# Altium schematic symbol library AB_SF.SchLib: 64 symbols
Pins are listed as number, name and electrical type; pins without a type are passive.

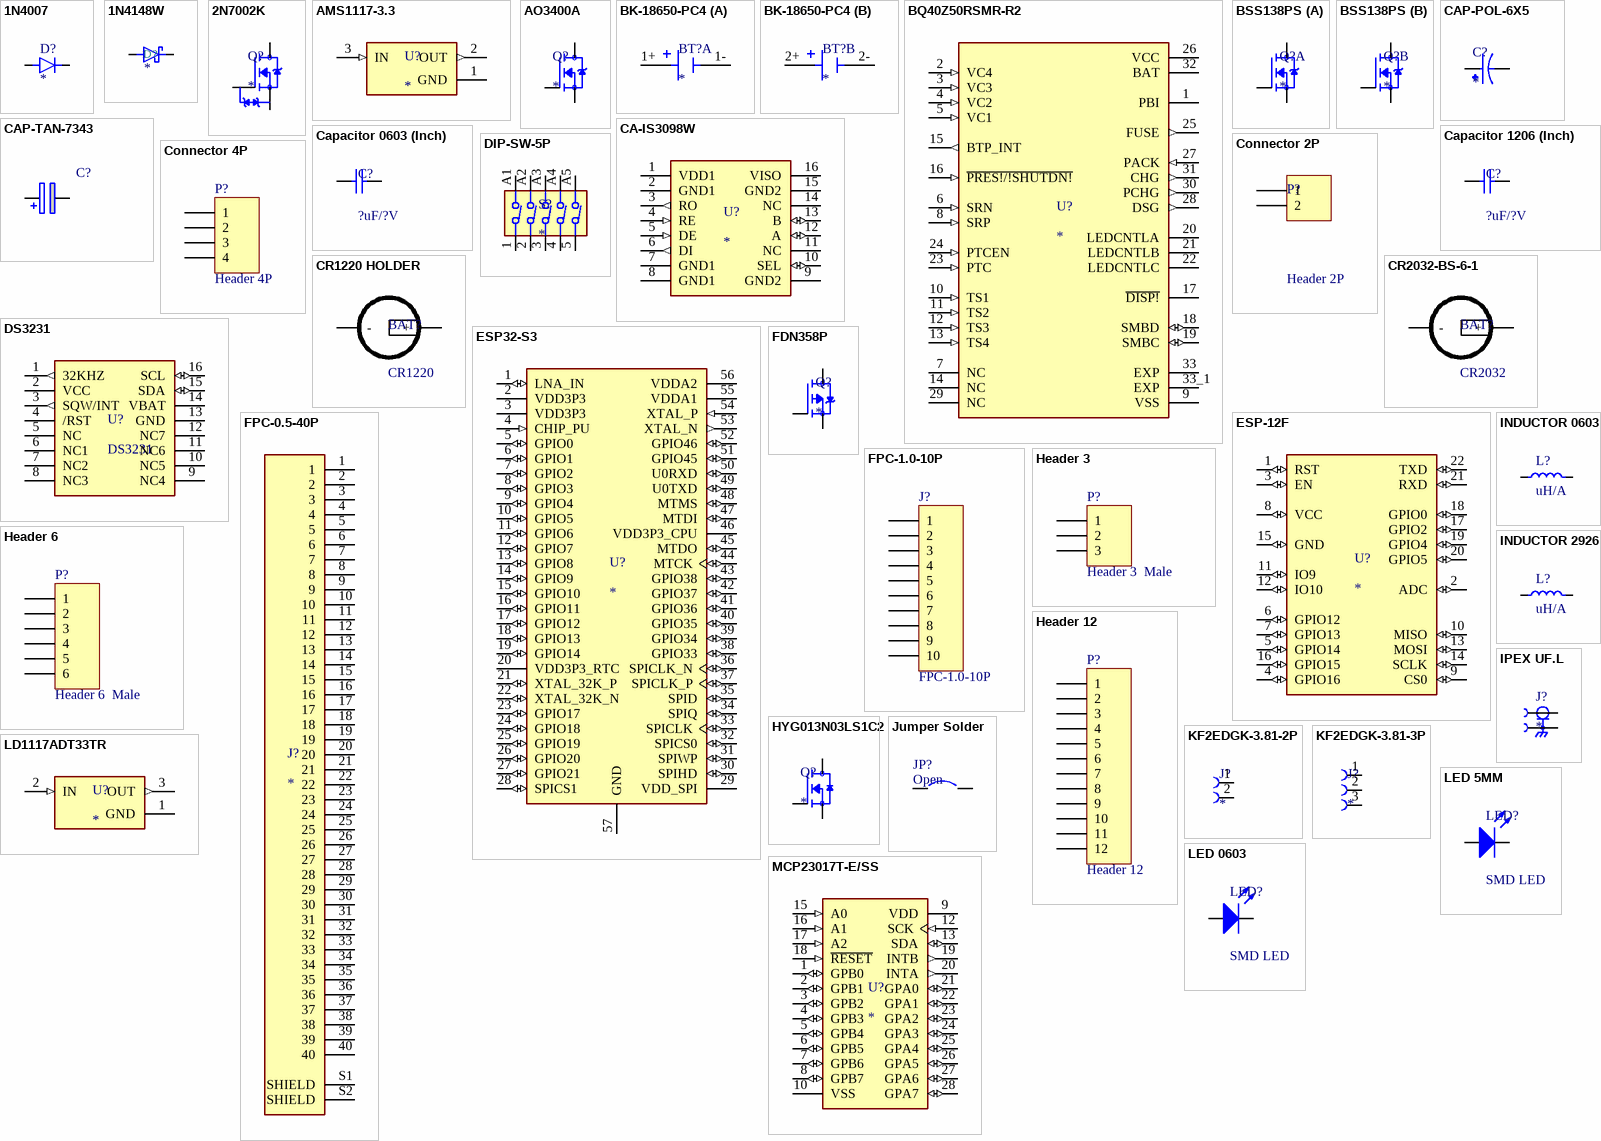
[diagram p0: symbols 1N4007 to MCP23017T-E/SS]

## 1N4007
designator D?
Diode Standard 1000V 1A Surface Mount SMA; MP: US1M-13; MF: Diodes Incorporated; Availability: In Stock; Package: DO-214AC-214 Diodes Incorporated; SnapEDA_Link: https://www.snapeda.com/parts/US1M-13/Diodes+Inc./view-part/?ref=snap; Check_prices: https://www.snapeda.com/parts/US1M-13/Diodes+Inc./view-part/?ref=eda; Value: *; Price: None; LCSC Part #: C7528875
footprint DO-214AC
pins: A, C K

## 1N4148W
designator D?
MFR.Part #: 1N4148W; LCSC Part #: C81598; ComponentLink1Description: Datasheet; ComponentLink1URL: https://www.lcsc.com/datasheet/C81598.pdf
footprint SOD-123F (SMD)
pins: A, K

## 2N7002K
designator Q?
60V 380mA 540mW 1.6V@1mA 1 N-Channel SOT-23; MFR.Part #: 2N7002K-7; LCSC Part #: C85047; ComponentLink1Description: Datasheet; ComponentLink1URL: https://www.lcsc.com/datasheet/C85047.pdf
footprint SOT-23-3
pins: 1 G, 2 S, 3 D

## AMS1117-3.3
designator U?
72dB@(120Hz) 1A Fixed 3.3V Positive 16V SOT-223 Voltage Regulators - Linear, Low Drop Out (LDO) Regulators; MFR.Part #: AMS1117-3.3; LCSC Part #: C6186; ComponentLink1Description: Datasheet; ComponentLink1URL: https://lcsc.com/datasheet/lcsc_datasheet_2410121508_Advanced-Monolithic-Systems-AMS1117-3-3_C6186.pdf
footprint SOT-223
pins: 1 GND (power), 2 OUT (out), 3 IN (in)

## AO3400A
designator Q?
N-Channel 30 V 5.8A 1.4W; MFR.Part #: AO3400A; LCSC Part #: C20917; ComponentLink1Description: Datasheet; ComponentLink1URL: https://www.lcsc.com/datasheet/lcsc_datasheet_2410121838_Alpha---Omega-Semicon-AO3400A_C20917.pdf
footprint SOT-23-3
pins: 1 G, 2 S, 3 D

## BK-18650-PC4
designator BT?
Battery Holder (Open) 18650 2 Cell PC Pin; MP: BK-18650-PC4; Price: None; Value: *; Package: None; Availability: Unavailable
footprint BAT_BK-18650-PC4
part A pins: 1+, 1-
part B pins: 2+, 2-

## BQ40Z50RSMR-R2
designator U?
1-4 series Li-ion battery pack manager supporting Turbo Mode 2.0 32-VQFN -40 to 85; MFR.Part #: BQ40Z50RSMR-R2; LCSC Part #: C2845123; ComponentLink1Description: Datasheet; ComponentLink1URL: https://www.lcsc.com/datasheet/C2845123.pdf
footprint VQFN-32
pins: 1 PBI (power), 2 VC4 (in), 3 VC3 (in), 4 VC2 (in), 5 VC1 (in), 6 SRN (in), 7 NC, 8 SRP (in), 9 VSS (power), 10 TS1 (in), 11 TS2 (in), 12 TS3 (in), 13 TS4 (in), 14 NC, 15 BTP_INT (out), 16 ~{PRES!/!SHUTDN!} (in), 17 ~{DISP!}, 18 SMBD (io), 19 SMBC (io), 20 LEDCNTLA, 21 LEDCNTLB, 22 LEDCNTLC, 23 PTC (in), 24 PTCEN (in), 25 FUSE (out), 26 VCC (power), 27 PACK (in), 28 DSG (out), 29 NC, 30 PCHG (out), 31 CHG (out), 32 BAT (power), 33 EXP, 33_1 EXP

## BSS138PS
designator Q?
60 V, 320 mA dual N-channel Trench MOSFET; MFR.Part #: BSS138PS,115; LCSC Part #: C193381; ComponentLink1Description: Datasheet; ComponentLink1URL: https://www.lcsc.com/datasheet/lcsc_datasheet_2410121736_Nexperia-BSS138PS-115_C193381.pdf
footprint SOT-363
part A pins: 1 S1, 2 G1, 6 D1
part B pins: 3 D2, 4 S2, 5 G2

## CA-IS3098W
designator U?
SOIC16-WB(W) Isolated RS-485/422 Transceivers with power, 20Mbps; MFR.Part #: CA-IS3098W; LCSC Part #: C7422557; ComponentLink1Description: Datasheet; ComponentLink1URL: https://www.lcsc.com/datasheet/C7422557.pdf
footprint SOIC-16-WIDE
pins: 1 VDD1 (power), 2 GND1 (power), 3 RO (out), 4 RE (in), 5 DE (in), 6 DI (out), 7 GND1 (power), 8 GND1 (power), 9 GND2 (power), 10 SEL (io), 11 NC, 12 A (io), 13 B (io), 14 NC, 15 GND2 (power), 16 VISO (power)

## CAP-POL-6X5
designator C?
CAP 6X5; MFR.Part #: *; LCSC Part #: *; ComponentLink1Description: Datasheet; ComponentLink1URL: *
footprint CAP_POL_6X5
pins: 1, 2

## CAP-TAN-7343
designator C?, comment ?uF/?V
7343mm Chip Tantalum Capacitor; MFR.Part #: *; LCSC Part #: *; ComponentLink1Description: Datasheet; ComponentLink1URL: *
footprint CAP_TAN_7343_D
pins: A +, C -

## Capacitor 0603 (Inch)
designator C?, comment ?uF/?V
0603 SMD Non-Polarity Capacitor; MFR.Part #: *; LCSC Part #: *; ComponentLink1Description: Datasheet; ComponentLink1URL: *
footprint C0603
pins: 1, 2

## Capacitor 1206 (Inch)
designator C?, comment ?uF/?V
1206 SMD Non-Polarity Capacitor; MFR.Part #: *; LCSC Part #: *; ComponentLink1Description: Datasheet; ComponentLink1URL: *
footprint C1206 (SOD-323; 2 Leads; Body 2.7 x 1.6 mm, (LxW))
pins: 1, 2

## Connector 2P
designator P?, comment Header 2P
CONNECTOR HEADER; MFR.Part #: *; LCSC Part #: *; ComponentLink1Description: Datasheet; ComponentLink1URL: *
footprint JST_XH-2.54 - 2P
footprint XH-2.54-2P (PinHeader 1x2 TH Pitch 2.54mm)
pins: 1, 2

## Connector 4P
designator P?, comment Header 4P
CONNECTOR HEADER; LatestRevisionDate: 17-Jul-2002; LatestRevisionNote: Re-released for DXP Platform.; Publisher: Altium Limited
footprint JST_S4B-XH-A(LF)(SN)
footprint JST_XH-2.54
pins: 1, 2, 3, 4

## CR1220 HOLDER
designator BAT?, comment CR1220
BATTERY HOLDER; MFR.Part #: BC501SM; LCSC Part #: C5439670; ComponentLink1Description: Datasheet; ComponentLink1URL: https://www.lcsc.com/datasheet/lcsc_datasheet_2410121528_MPD--Memory-Protection-Devices-BC501SM_C5439670.pdf
footprint MPD_BC501SM-TR
pins: +, -
1 alternate drawing of the same symbol

## CR2032-BS-6-1
designator BAT?, comment CR2032
Battery base CR2032 SMD Battery Connectors; MFR.Part #: *; LCSC Part #: *; ComponentLink1Description: Datasheet; ComponentLink1URL: *
footprint CR2032-BS-6-1
pins: N -, P +
1 alternate drawing of the same symbol

## DIP-SW-5P
designator S?
Dip Switch SPST 5 Position Through Hole Slide (Standard) Actuator 25mA 24VDC; MF: WÃ¼rth Elektronik; MP: 418117270905; SnapEDA_Link: https://www.snapeda.com/parts/418117270905/W%25C3%25BCrth+Elektronik+Midcom/view-part/?ref=snap; Package: None; Value: *; Check_prices: https://www.snapeda.com/parts/418117270905/W%25C3%25BCrth+Elektronik+Midcom/view-part/?ref=eda
footprint DIP-SW-5P
pins: 1, 2, 3, 4, 5, A1, A2, A3, A4, A5

## DS3231
designator U?
Real Time Clock (RTC) IC Clock/Calendar - IÂ²C, 2-Wire Serial 8-SOIC (0.154, 3.90mm Width); MFR.Part #: DS3231SN#T&R; LCSC Part #: C9866; ComponentLink1Description: Datasheet; ComponentLink1URL: https://www.lcsc.com/datasheet/C9866.pdf
footprint SOIC-16-WIDE
pins: 1 32KHZ (out), 2 VCC (power), 3 SQW/INT (out), 4 /RST, 5 NC, 6 NC1, 7 NC2, 8 NC3, 9 NC4, 10 NC5, 11 NC6, 12 NC7, 13 GND (power), 14 VBAT (power), 15 SDA (io), 16 SCL (io)

## ESP32-S3
designator U?
IC RF TxRx + MCU Bluetooth, WiFi 802.11b/g/n, Bluetooth v5.0 2.412GHz ~ 2.484GHz 56-VFQFN Exposed Pad; MFR.Part #: *; LCSC Part #: *; ComponentLink1Description: Datasheet; ComponentLink1URL: *
footprint ESP32-S3
pins: 1 LNA_IN (io), 2 VDD3P3 (power), 3 VDD3P3 (power), 4 CHIP_PU (in), 5 GPIO0 (io), 6 GPIO1 (io), 7 GPIO2 (io), 8 GPIO3 (io), 9 GPIO4 (io), 10 GPIO5 (io), 11 GPIO6 (io), 12 GPIO7 (io), 13 GPIO8 (io), 14 GPIO9 (io), 15 GPIO10 (io), 16 GPIO11 (io), 17 GPIO12 (io), 18 GPIO13 (io), 19 GPIO14 (io), 20 VDD3P3_RTC (power), 21 XTAL_32K_P (io), 22 XTAL_32K_N (io), 23 GPIO17 (io), 24 GPIO18 (io), 25 GPIO19 (io), 26 GPIO20 (io), 27 GPIO21 (io), 28 SPICS1 (io), 29 VDD_SPI (power), 30 SPIHD (io), 31 SPIWP (io), 32 SPICS0 (io), 33 SPICLK (io), 34 SPIQ (io), 35 SPID (io), 36 SPICLK_N (io), 37 SPICLK_P (io), 38 GPIO33 (io), 39 GPIO34 (io), 40 GPIO35 (io), 41 GPIO36 (io), 42 GPIO37 (io), 43 GPIO38 (io), 44 MTCK (io), 45 MTDO (io), 46 VDD3P3_CPU (power), 47 MTDI (io), 48 MTMS (io), 49 U0TXD (io), 50 U0RXD (io), 51 GPIO45 (io), 52 GPIO46 (io), 53 XTAL_N (out), 54 XTAL_P (in), 55 VDDA1 (power), 56 VDDA2 (power), 57 GND (power)

## ESP-12F
designator U?
WiFi Module; MF: AI-Thinker; MP: ESP-12F; SnapEDA_Link: https://www.snapeda.com/parts/ESP-12F/AI-Thinker/view-part/?ref=snap; Package: Package; Value: *; Check_prices: https://www.snapeda.com/parts/ESP-12F/AI-Thinker/view-part/?ref=eda
footprint ESP-12F
pins: 1 RST (io), 2 ADC (io), 3 EN (io), 4 GPIO16 (io), 5 GPIO14 (io), 6 GPIO12 (io), 7 GPIO13 (io), 8 VCC (io), 9 CS0 (io), 10 MISO (io), 11 IO9 (io), 12 IO10 (io), 13 MOSI (io), 14 SCLK (io), 15 GND (io), 16 GPIO15 (io), 17 GPIO2 (io), 18 GPIO0 (io), 19 GPIO4 (io), 20 GPIO5 (io), 21 RXD (io), 22 TXD (io)

## FDN358P
designator Q?
P-Channel 30V 1.5A (Ta) 500mW (Ta) Surface Mount SuperSOT-3; MFR.Part #: FDN358P; LCSC Part #: C5197337; ComponentLink1Description: Datasheet; ComponentLink1URL: https://www.lcsc.com/datasheet/C5197337.pdf
footprint SOT-23-3
pins: 1 G, 2 S, 3 D

## FPC-0.5-40P
designator J?
Connector: FFC / FPC; horizontal; PIN: 40; ZIF, top contacts; SMT; MFR.Part #: *; LCSC Part #: *; ComponentLink1Description: Datasheet; ComponentLink1URL: *
footprint FPC_0.5_40P - TOP CONTACT - duplicate
pins: 1, 2, 3, 4, 5, 6, 7, 8, 9, 10, 11, 12, 13, 14, 15, 16, 17, 18, 19, 20, 21, 22, 23, 24, 25, 26, 27, 28, 29, 30, 31, 32, 33, 34, 35, 36, 37, 38, 39, 40, S1 SHIELD, S2 SHIELD

## FPC-1.0-10P
designator J?
Connector: FFC / FPC; horizontal; PIN: 10; ZIF; LatestRevisionDate: 17-Jul-2002; LatestRevisionNote: Re-released for DXP Platform.; Publisher: Altium Limited
footprint FPC_1.0_10P - BOTTOM CONTACT
pins: 1, 2, 3, 4, 5, 6, 7, 8, 9, 10

## Header 3
designator P?, comment Header 3  Male
Header, 3-Pin; LatestRevisionDate: 17-Jul-2002; LatestRevisionNote: Re-released for DXP Platform.; Publisher: Altium Limited
footprint HDR-3P-2.54mm (PinHeader 1x3 TH Pitch 2.54mm)
pins: 1, 2, 3

## Header 6
designator P?, comment Header 6  Male
Header, 6-Pin; LatestRevisionDate: 17-Jul-2002; LatestRevisionNote: Re-released for DXP Platform.; Publisher: Altium Limited
footprint HDR-6P-2.54mm (PinHeader 1x6 TH Pitch 2.54mm)
pins: 1, 2, 3, 4, 5, 6

## Header 12
designator P?
Header, 12-Pin; LatestRevisionDate: 17-Jul-2002; LatestRevisionNote: Re-released for DXP Platform.; Publisher: Altium Limited
footprint HDR-12P-2.54mm (PinHeader 1x12 TH Pitch 2.54mm)
pins: 1, 2, 3, 4, 5, 6, 7, 8, 9, 10, 11, 12

## HYG013N03LS1C2
designator Q?
MOSFET N-CH 30V 150A PDFN5x6-8; MFR.Part #: HYG013N03LS1C2; LCSC Part #: C2763405; ComponentLink1Description: Datasheet; ComponentLink1URL: https://www.lcsc.com/datasheet/C2763405.pdf
footprint PDFN56
pins: 1 S, 2 S, 3 S, 4 G, 5_8 D

## INDUCTOR 0603
designator L?, comment uH/A
Inductor with Package: 0603 Inch; MFR.Part #: *; LCSC Part #: *; ComponentLink1Description: Datasheet; ComponentLink1URL: *
footprint L0603
pins: 1, 2

## INDUCTOR 2926
designator L?, comment uH/A
Inductor with Package: 2926 (7467); MFR.Part #: *; LCSC Part #: *; ComponentLink1Description: Datasheet; ComponentLink1URL: *
footprint IND_2926 (7467)
pins: 1, 2

## IPEX UF.L
designator J?
1 POS Vertical SMD Small form factor with big performance through 6 GHz connector,MHF, RF, micro-coaxial MHF I Receptacle; MFR.Part #: *; LCSC Part #: *; ComponentLink1Description: Datasheet; ComponentLink1URL: *
footprint IPEX_UF.L
pins: 1 SIGNAL, 2 GROUND, 3 GROUND

## Jumper Solder
designator JP?, comment Open
Jumper Solder Pad; Published: 24-Mar-1999; Revision: July-2002: Re-released for DXP Platform.; Publisher: Altium Limited
footprint SB_STM (solder bridge)
pins: 1, 2

## KF2EDGK-3.81-2P
designator J?
TB PLUG 2P 5M; MP: 691312710002; MF: Wurth Elektronik; Purchase-URL: https://pricing.snapeda.com/search/part/691312710002/?ref=eda; Price: None; Value: *; SnapEDA_Link: https://www.snapeda.com/parts/691312710002/Wurth+Elektronik/view-part/?ref=snap; Package: None; Availability: In Stock; Check_prices: https://www.snapeda.com/parts/691312710002/Wurth+Elektronik/view-part/?ref=eda
footprint KF2EDGK-3.81-2P
pins: 1, 2 1

## KF2EDGK-3.81-3P
designator J?
TB PLUG 2P 5M; MP: 691312710002; MF: Wurth Elektronik; Purchase-URL: https://pricing.snapeda.com/search/part/691312710002/?ref=eda; Price: None; Value: *; SnapEDA_Link: https://www.snapeda.com/parts/691312710002/Wurth+Elektronik/view-part/?ref=snap; Package: None; Availability: In Stock; Check_prices: https://www.snapeda.com/parts/691312710002/Wurth+Elektronik/view-part/?ref=eda
footprint KF2EDGK-3.81-3P
pins: 1, 2 1, 3

## LD1117ADT33TR
designator U?
Linear Voltage Regulator IC Positive Fixed 1 Output 3.3V 1A; MP: AMS1117-5.0; Value: *; Availability: Unavailable; Price: None; Package: None; LCSC Part #: C6186
footprint DPAK
pins: 1 GND (power), 2 IN (in), 3 OUT (out)

## LED 5MM
designator LED?, comment SMD LED
LED D5MM; Published: 8-Jun-2000; LatestRevisionDate: 08-Jul-2005; LatestRevisionNote: Mech Layer 1 removed.; PackageReference: LED-0; Publisher: Altium Limited; PackageDescription: LED; 2 Leads; LCSC Part #: C84263
footprint LED BLUE 5MM
pins: a A, C

## LED 0603
designator LED?, comment SMD LED
0603 LED; MFR.Part #: *; LCSC Part #: *; ComponentLink1Description: Datasheet; ComponentLink1URL: *
footprint LED0603 (LED SMT Pad)
pins: 1 A, 2 K

## MCP23017T-E/SS
designator U?
16-bit Input/Output Expander, I2C interface, Pb-free28 SSOP .209in T/R | Microchip Technology Inc. MCP23017T-E/SS; MFR.Part #: MCP23017T-E/SS; LCSC Part #: C558584; ComponentLink1Description: Datasheet; ComponentLink1URL: https://www.lcsc.com/datasheet/C558584.pdf
footprint SSOP-28
pins: 1 GPB0 (io), 2 GPB1 (io), 3 GPB2 (io), 4 GPB3 (io), 5 GPB4 (io), 6 GPB5 (io), 7 GPB6 (io), 8 GPB7 (io), 9 VDD (power), 10 VSS (power), 12 SCK (in), 13 SDA (io), 15 A0 (in), 16 A1 (in), 17 A2 (in), 18 ~{RESET} (in), 19 INTB (out), 20 INTA (out), 21 GPA0 (io), 22 GPA1 (io), 23 GPA2 (io), 24 GPA3 (io), 25 GPA4 (io), 26 GPA5 (io), 27 GPA6 (io), 28 GPA7 (io)

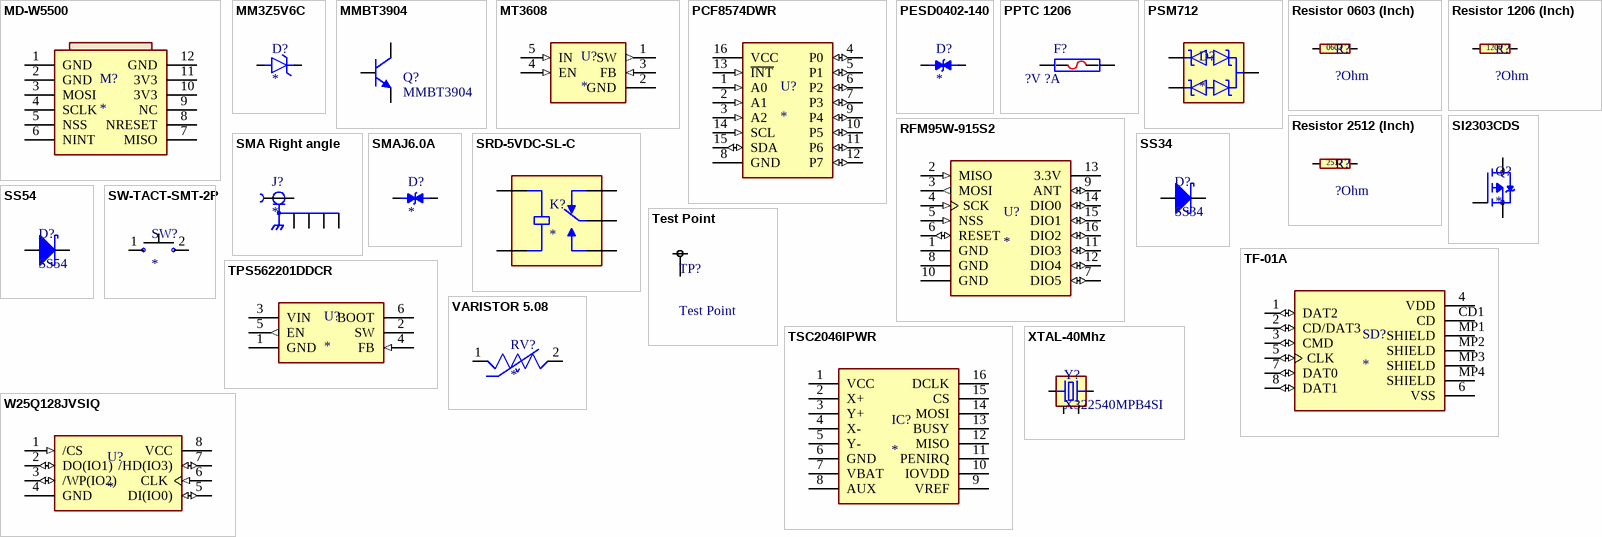
[diagram p1: symbols MD-W5500 to XTAL-40Mhz]

## MD-W5500
designator M?
Hardwired TCP/IP embedded Ethernet controller
footprint MD-W5500 (PinHeader 1x4 TH Pitch 2.54mm)
pins: 1 GND, 2 GND, 3 MOSI, 4 SCLK, 5 NSS, 6 NINT, 7 MISO, 8 NRESET, 9 NC, 10 3V3, 11 3V3, 12 GND

## MM3Z5V6C
designator D?
Independent 5.32V~5.88V 200mW 5.6V SOD-323F Zener Diodes; MFR.Part #: MM3Z5V6C; LCSC Part #: C891635; ComponentLink1Description: Datasheet; ComponentLink1URL: https://www.lcsc.com/datasheet/C891635.pdf
footprint SOD-323F
pins: A, C K

## MMBT3904
designator Q?
Bipolar (BJT) Transistor NPN 40 V 200 mA 300MHz 250 mW Surface Mount SOT-23; Published: 8-Jun-2000; LatestRevisionDate: 17-Jul-2002; LatestRevisionNote: Re-released for DXP Platform.; PackageReference: TO-226-AA; Publisher: Altium Limited; PackageDescription: TO, Flat Index; 3 In-Line, Axial Leads; Body Dia. 4.8mm; Leads 0.55 x 0.51 mm (max); Code_JEDEC: TO-226-AA
footprint SOT-23
pins: 1 B, 2 E, 3 C

## MT3608
designator U?
High Efficiency 1.2MHz2A Step Up Converter; MFR.Part #: MT3608; LCSC Part #: C84817; ComponentLink1Description: Datasheet; ComponentLink1URL: https://www.lcsc.com/datasheet/C84817.pdf
footprint SOT-23-6
pins: 1 SW (out), 2 GND (power), 3 FB (in), 4 EN (in), 5 IN (in)

## PCF8574DWR
designator U?
Remote 8-Bit I/O Expander for I2C-Bus 16-SOIC -40 to 85; MFR.Part #: PCF8574T/TR; LCSC Part #: C2987288; ComponentLink1Description: Datasheet; ComponentLink1URL: https://www.lcsc.com/datasheet/C2987288.pdf
footprint SOIC-16-WIDE
pins: 1 A0 (in), 2 A1 (in), 3 A2 (in), 4 P0 (io), 5 P1 (io), 6 P2 (io), 7 P3 (io), 8 GND (power), 9 P4 (io), 10 P5 (io), 11 P6 (io), 12 P7 (io), 13 ~{INT} (in), 14 SCL (in), 15 SDA (io), 16 VCC (power)

## PESD0402-140
designator D?
40V Bidirectional 14V 0402 ESD and Surge Protection (TVS/ESD) ROHS; MF: Littelfuse; MP: SMAJ6.5CA; Purchase-URL: https://pricing.snapeda.com/search/part/SMAJ6.5CA/?ref=eda; SnapEDA_Link: https://www.snapeda.com/parts/SMAJ6.5CA/Littelfuse/view-part/?ref=snap; Value: *; Package: DO-214 Littelfuse; Check_prices: https://www.snapeda.com/parts/SMAJ6.5CA/Littelfuse/view-part/?ref=eda; Price: None; Availability: In Stock; LCSC Part #: C83330; JLCPCB Part: C10662
footprint ESD0402
pins: 1, 2

## PPTC 1206
designator F?, comment ?V ?A
PPTC RESET FUSE; MFR.Part #: *; LCSC Part #: *; ComponentLink1Description: Datasheet; ComponentLink1URL: *
footprint PPTC-1206
pins: 1, 2

## PSM712
designator D?
31V, 19V Clamp 19A (8/20µs) Ipp Tvs Diode; Mfr. Part #: PSM712-LF-T7; LCSC Part #: C2687124; ComponentLink1Description: Datasheet; ComponentLink1URL: https://lcsc.com/datasheet/lcsc_datasheet_2311091738_UMW-Youtai-Semiconductor-Co---Ltd--PSM712-LF-T7_C2687124.pdf
footprint SOT-23-3
pins: 1, 2, 3

## Resistor 0603 (Inch)
designator R?, comment ?Ohm
0603 SMD Thick Resistor; MFR.Part #: *; LCSC Part #: *; ComponentLink1Description: Datasheet; ComponentLink1URL: *
footprint R0603
pins: 1, 2
text: 0603

## Resistor 1206 (Inch)
designator R?, comment ?Ohm
1206 SMD Thick Resistor; MFR.Part #: *; LCSC Part #: *; ComponentLink1Description: Datasheet; ComponentLink1URL: *
footprint R1206 (SOD-323; 2 Leads; Body 2.7 x 1.6 mm, (LxW))
pins: 1, 2
text: 1206

## Resistor 2512 (Inch)
designator R?, comment ?Ohm
2512 SMD Thick Resistor; MFR.Part #: *; LCSC Part #: *; ComponentLink1Description: Datasheet; ComponentLink1URL: *
footprint R2512
pins: 1, 2
text: 2512

## RFM95W-915S2
designator U?
RFM95(W) - Low Power Long Range Transceiver Module V1.0; MP: RFM95W-915S2; Availability: Unavailable; Value: *; Package: None; Price: None
footprint RFM95W
pins: 1 GND (power), 2 MISO (in), 3 MOSI (out), 4 SCK (in), 5 NSS (in), 6 RESET (io), 7 DIO5 (io), 8 GND (power), 9 ANT (io), 10 GND (power), 11 DIO3 (io), 12 DIO4 (io), 13 3.3V (power), 14 DIO0 (io), 15 DIO1 (io), 16 DIO2 (io)

## SI2303CDS
designator Q?
30V 2.7A 330mΩ@4.5V,1.4A 1.5W 3V@0.25mA 1 P-Channel SOT-23; MFR.Part #: SI2303CDS-T1-GE3; LCSC Part #: C10489; ComponentLink1Description: Datasheet; ComponentLink1URL: https://www.lcsc.com/datasheet/C10489.pdf
footprint SOT-23-3
pins: 1 G, 2 S, 3 D

## SMA Right angle
designator J?
RF Connector, SMA Right angle PCB jack(f) | HUBER+SUHNER 85_SMA-50-0-144/111_YH; SnapEDA_Link: https://www.snapeda.com/parts/85_SMA-50-0-144/111_YH/Huber%252BSuhner/view-part/?ref=snap; Package: None; Value: *; MF: HUBER+SUHNER; MP: 85_SMA-50-0-144/111_YH; Check_prices: https://www.snapeda.com/parts/85_SMA-50-0-144/111_YH/Huber%252BSuhner/view-part/?ref=eda
footprint SMA Right angle
pins: 1, G1 (power), G2 (power), G3 (power), G4 (power)

## SMAJ6.0A
designator D?
38.8A 400W@10/1000us 10.3V 7.37V Unidirectional DO-214AC(SMA) TVS Diodes; MF: Littelfuse; MP: SMAJ6.5CA; Purchase-URL: https://pricing.snapeda.com/search/part/SMAJ6.5CA/?ref=eda; SnapEDA_Link: https://www.snapeda.com/parts/SMAJ6.5CA/Littelfuse/view-part/?ref=snap; Value: *; Package: DO-214 Littelfuse; Check_prices: https://www.snapeda.com/parts/SMAJ6.5CA/Littelfuse/view-part/?ref=eda; Price: None; Availability: In Stock; LCSC Part #: C83330
footprint DO-214AC (SMA)
pins: 1, 2

## SRD-5VDC-SL-C
designator K?
General Purpose Non Latching 5VDC SPDT Through Hole Relays RoHS; MP: SRD-12VDC-SL-C; Price: None; Package: None; Availability: Unavailable; Value: *
footprint RELAY_SRD-5VDC-SL-C
pins: COIL1, COIL2, COM, NC, NO

## SS34
designator D?
Schottky SS34 DO-214AC; MFR.Part #: SS34; LCSC Part #: C3040628; ComponentLink1Description: Datasheet; ComponentLink1URL: https://www.lcsc.com/datasheet/C3040628.pdf
footprint DO-214AC
pins: A, C K

## SS54
designator D?
40V Independent 550mV@5A 5A SMA(DO-214AC) Schottky Diodes; MFR.Part #: SS54; LCSC Part #: C22452; ComponentLink1Description: Datasheet; ComponentLink1URL: https://www.lcsc.com/datasheet/C22452.pdf
footprint DO-214AC
pins: A, C K

## SW-TACT-SMT-2P
designator SW?
Switch Tactile OFF (ON) SPST Rectangular Button Gull Wing 0.05A 12VDC SMD Loose Piece; MFR.Part #: TS-1088R-02026; LCSC Part #: C455280; ComponentLink1Description: Datasheet; ComponentLink1URL: https://www.lcsc.com/datasheet/lcsc_datasheet_2410121507_XUNPU-TS-1088R-02026_C455280.pdf
footprint SW-TACT-SMT-2P
pins: 1, 2

## Test Point
designator TP?
Thick Pad
footprint PAD (Solder Pad)
footprint PAD_HOLE (Solder Pad)
pins: 1

## TF-01A
designator SD?
Standard Card Edge Connectors; MP: TF-01A; MF: HRO Electronics Co., Ltd.; Price: None; Availability: Not in stock; Package: Package; SnapEDA_Link: https://www.snapeda.com/parts/TF-01A/HRO+Electronics+Co.%252C+Ltd./view-part/?ref=snap; Check_prices: https://www.snapeda.com/parts/TF-01A/HRO+Electronics+Co.%252C+Ltd./view-part/?ref=eda; Value: *; LCSC Part #: C2889258
footprint TF-01A
pins: 1 DAT2 (io), 2 CD/DAT3 (io), 3 CMD (io), 4 VDD (power), 5 CLK (io), 6 VSS (power), 7 DAT0 (io), 8 DAT1 (io), CD1 CD, MP1 SHIELD (power), MP2 SHIELD (power), MP3 SHIELD (power), MP4 SHIELD (power)

## TPS562201DDCR
designator U?
4.5 V to 17 V input, 2 A output, synchronous step-down converter in Eco-mode; MFR.Part #: TPS562201DDCR; LCSC Part #: C90061; ComponentLink1Description: Datasheet; ComponentLink1URL: https://www.lcsc.com/datasheet/C90061.pdf
footprint SOT-23-6
pins: 1 GND (power), 2 SW, 3 VIN (power), 4 FB (in), 5 EN (out), 6 BOOT

## TSC2046IPWR
designator IC?
12 2V~5.25V TSSOP-16 Touch Screen Controllers ROHS; MFR.Part #: TSC2046IPWR; LCSC Part #: C8954; ComponentLink1Description: Datasheet; ComponentLink1URL: https://www.lcsc.com/datasheet/C8954.pdf
footprint TSSOP-16
pins: 1 VCC, 2 X+, 3 Y+, 4 X-, 5 Y-, 6 GND, 7 VBAT, 8 AUX, 9 VREF, 10 IOVDD, 11 PENIRQ, 12 MISO, 13 BUSY, 14 MOSI, 15 CS, 16 DCLK

## VARISTOR 5.08
designator RV?
470 V 8 kA Varistor 1 Circuit Through Hole Disc 20mm; MP: B72220S0301K101; MF: TDK; Purchase-URL: https://pricing.snapeda.com/search/part/B72220S0301K101/?ref=eda; Package: None; SnapEDA_Link: https://www.snapeda.com/parts/B72220S0301K101/TDK/view-part/?ref=snap; Price: None; Availability: In Stock; Value: *; Check_prices: https://www.snapeda.com/parts/B72220S0301K101/TDK/view-part/?ref=eda
footprint VARISTOR 5.08 TH
pins: 1, 2

## W25Q128JVSIQ
designator U?
FLASH - NOR Memory IC 128Mb (16M x 8) SPI - Quad I/O, QPI, DTR 133 MHz 8-SOIC; MFR.Part #: *; LCSC Part #: *; ComponentLink1Description: Datasheet; ComponentLink1URL: *
footprint SOIC-8-208miL
pins: 1 /CS (in), 2 DO(IO1) (io), 3 /WP(IO2) (io), 4 GND (power), 5 DI(IO0) (io), 6 CLK (in), 7 /HD(IO3) (io), 8 VCC (power)

## XTAL-40Mhz
designator Y?, comment X322540MPB4SI
40MHz Crystal Oscillator 15pF ±10ppm ±20ppm SMD3225-4P Crystals ROHS; MFR.Part #: X322540MPB4SI; LCSC Part #: C9010; ComponentLink1Description: Datasheet; ComponentLink1URL: https://www.lcsc.com/datasheet/C9010.pdf
footprint OSC_SMD3225-4
pins: 1 OSC1, 2 GND, 3 OSC2, 4 GND